# Altium footprint library RaspComputeModule_4_IO.PcbLib: 40 footprints (part 1 of 3)
Each footprint in its own frame and in the unit in brackets; x right, y up, seen from the top. Pads: shape width x height; smd on the part's side, far side on the other; paste and mask are expansions set on the pad; w line width, h text height; cw(c..) or ccw(c..) is an arc to the next point about the centre after c.
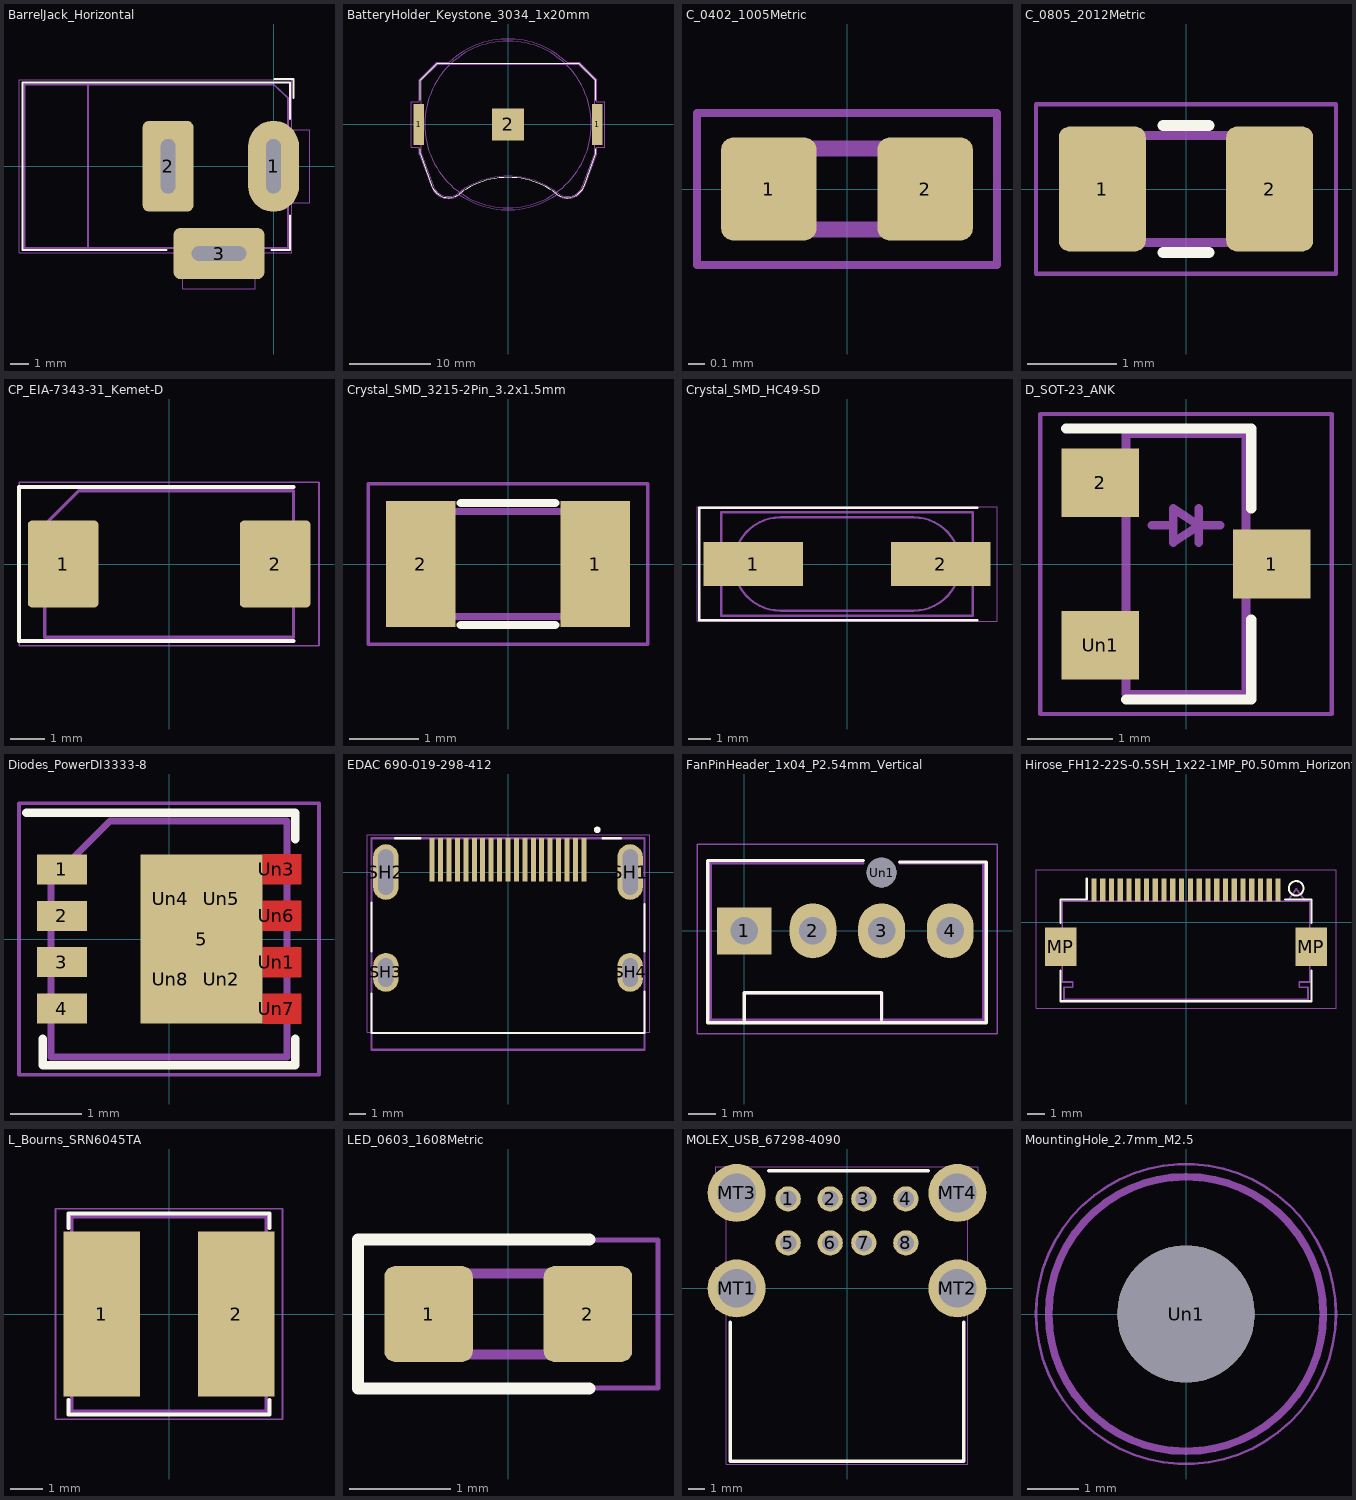
[diagram p0: the footprints below, top view; thin cyan lines are the x and y axes]

## BarrelJack_Horizontal [mm]
pads (3):
  rrect100% 2.8x5 hole 3 slot 0.8 at 0 deg paste-5: 1(0,0)
  rrect25% 2.8x5 hole 3 slot 0.8 at 0 deg paste-5: 2(-5.8,0)
  rrect25% 5x2.8 hole 0.8 slot 3 at 0 deg paste-5: 3(-3,-4.8)
Top Overlay:
  lines w0.12: -5.9,-4.6 -13.8,-4.6 -13.8,4.6 0.9,4.6 0.9,2.6 ; -0.1,-4.6 0.9,-4.6 0.9,-2.7 ; 0.05,4.8 1.1,4.8 1.1,3.75
Mechanical 4:
  lines w0.05: -14,-4.75 -5,-4.75 -5,-6.75 -1,-6.75 -1,-4.75 1,-4.75 1,-2 2,-2 2,2 1,2 1,4.5 1,4.75 -14,4.75 -14,-4.75
Mechanical 6:
  lines w0.1: -10.2,-4.5 -10.2,4.5 ; -0.003,4.505 0.8,3.75 0.8,-4.5 -13.7,-4.5 -13.7,4.5 0,4.5
  text "${REFERENCE}" at -7.773,2.038 h1

## BatteryHolder_Keystone_3034_1x20mm [mm]
pads (3):
  rect 1.27x5.08 smd mask+0: 1(-10.985,0) 1(10.985,0)
  rect 3.96x3.96 smd mask+0: 2(0,0)
Top Overlay:
  lines w0.1: -10.78,-3 -10.78,-3.63 -9.34,-7.58 ccw(c-7.31,-6.85) -6.003,-8.567 ; -10.78,3 -10.78,5.46 -8.7,7.54 8.7,7.54 10.78,5.46 10.78,3 ; -6.005,-8.554 cw(c0,-16.36) 6,-8.55 ccw(c7.31,-6.85) 9.325,-7.588 ; 9.34,-7.58 10.78,-3.63 10.78,-3
Mechanical 2:
  circle w0.15: c0,0 r10.25
Mechanical 4:
  lines w0.05: -9.44,-7.62 -10.88,-3.64 -10.88,-2.79 -11.87,-2.79 -11.87,2.79 -10.88,2.79 -10.88,5.5 -8.74,7.64 -7.2,7.64 cw(c0,0) 7.2,7.64 8.74,7.64 10.88,5.5 10.88,2.79 11.87,2.79 11.87,-2.79 10.88,-2.79 10.88,-3.64 9.412,-7.63 ; -9.43,-7.62 ccw(c-7.31,-6.85) -5.948,-8.647 ; -5.96,-8.64 ccw(c0,0) 5.96,-8.64 ccw(c7.31,-6.85) 9.415,-7.621
Mechanical 6:
  lines w0.1: -6.096,-8.439 cw(c-7.31,-6.85) -9.19,-7.53 -10.63,-3.6 -10.63,5.4 -8.64,7.39 8.64,7.39 10.63,5.4 10.63,-3.6 9.19,-7.53 ; -6.095,-8.426 cw(c0,-16.36) 6.1,-8.43 ccw(c7.31,-6.85) 9.181,-7.529
  text "${REFERENCE}" at 4.773,3.812 h1

## C_0402_1005Metric [mm]
pads (2):
  rrect25% 0.59x0.64 smd mask+0: 1(-0.485,0) 2(0.485,0)
Mechanical 4:
  lines w0.05: -0.93,-0.47 -0.93,0.47 0.93,0.47 0.93,-0.47 -0.93,-0.47
Mechanical 6:
  lines w0.1: -0.5,-0.25 -0.5,0.25 0.5,0.25 0.5,-0.25 -0.5,-0.25
  text "${REFERENCE}" at -1.196,-0.23 h0.25

## C_0805_2012Metric [mm]
pads (2):
  rrect25% 0.975x1.4 smd mask+0: 1(-0.937,0) 2(0.937,0)
Top Overlay:
  lines w0.12: -0.259,-0.71 0.259,-0.71 ; -0.259,0.71 0.259,0.71
Mechanical 4:
  lines w0.05: -1.68,-0.95 1.68,-0.95 1.68,0.95 -1.68,0.95 -1.68,-0.95
Mechanical 6:
  lines w0.1: -1,-0.6 -1,0.6 1,0.6 1,-0.6 -1,-0.6
  text "${REFERENCE}" at 2.391,0.461 h0.5

## CP_EIA-7343-31_Kemet-D [mm]
pads (2):
  rrect12% 2.075x2.55 smd mask+0: 1(-3.113,0) 2(3.113,0)
Top Overlay:
  lines w0.12: 3.65,-2.26 -4.41,-2.26 -4.41,2.26 3.65,2.26
Mechanical 4:
  lines w0.05: -4.4,-2.4 -4.4,2.4 4.4,2.4 4.4,-2.4 -4.4,-2.4
Mechanical 6:
  lines w0.1: -3.65,-2.15 3.65,-2.15 3.65,2.15 -2.65,2.15 -3.65,1.15 -3.65,-2.15
  text "${REFERENCE}" at -4.773,-0.912 h1

## Crystal_SMD_3215-2Pin_3.2x1.5mm [mm]
pads (2):
  rect 1x1.8 smd mask+0: 1(1.25,0) 2(-1.25,0)
Top Overlay:
  lines w0.12: -0.675,-0.875 0.675,-0.875 ; -0.675,0.875 0.675,0.875
Mechanical 4:
  lines w0.05: -2,-1.15 2,-1.15 2,1.15 -2,1.15 -2,-1.15
Mechanical 6:
  lines w0.1: -1.6,-0.75 1.6,-0.75 1.6,0.75 -1.6,0.75 -1.6,-0.75
  text "${REFERENCE}" at -4.773,1.088 h1

## Crystal_SMD_HC49-SD [mm]
pads (2):
  rect 4.5x2 smd mask+0: 1(-4.25,0) 2(4.25,0)
Top Overlay:
  lines w0.12: 5.9,-2.55 -6.7,-2.55 -6.7,2.55 5.9,2.55
Mechanical 4:
  lines w0.05: -6.8,-2.6 6.8,-2.6 6.8,2.6 -6.8,2.6 -6.8,-2.6
Mechanical 6:
  lines w0.1: -5.7,-2.35 -5.7,2.35 5.7,2.35 5.7,-2.35 -5.7,-2.35 ; -3.015,-2.115 cw(c-3.015,0) -3.015,2.115 3.015,2.115 cw(c3.015,0) 3.015,-2.115 -3.015,-2.115
  text "${REFERENCE}" at -4.673,-0.912 h1

## D_SOT-23_ANK [mm]
pads (3):
  rect 0.9x0.8 smd mask+0: 1(1,0) 2(-1,0.95) Un1(-1,-0.95)
Top Overlay:
  lines w0.12: -1.4,1.58 0.76,1.58 0.76,0.65 ; -0.7,-1.58 0.76,-1.58 0.76,-0.65
Mechanical 4:
  lines w0.05: -1.7,-1.75 1.7,-1.75 1.7,1.75 -1.7,1.75 -1.7,-1.75
Mechanical 6:
  lines w0.1: -0.4,0.45 -0.15,0.45 ; 0.15,0.25 0.15,0.65 ; 0.4,0.45 0.15,0.45 ; 0.15,0.45 -0.15,0.25 -0.15,0.65 0.15,0.45 ; -0.7,-1.52 -0.7,1.52 0.7,1.52 0.7,-1.52 -0.7,-1.52
  text "${REFERENCE}" at -4.773,1.588 h1

## Diodes_PowerDI3333-8 [mm]
pads (13):
  rect 0.7x0.42 smd mask+0: 1(-1.5,0.975) 2(-1.5,0.325) 3(-1.5,-0.325) 4(-1.5,-0.975)
  rect 1.71x2.37 smd paste-2.37 mask+0: 5(0.455,0)
  rect 0.7x0.42 on Top Paste mask-0.7: Un1(1.5,-0.325) Un3(1.5,0.975) Un6(1.5,0.325) Un7(1.5,-0.975)
  rect 0.6x1 on Top Paste mask-1: Un2(0.73,-0.565) Un4(0.02,0.565) Un5(0.73,0.565) Un8(0.02,-0.565)
Top Layer:
  region: 1.85,-1.185 1.31,-1.185 1.31,-0.765 1.85,-0.765
  region: 1.85,-0.535 1.31,-0.535 1.31,-0.115 1.85,-0.115
  region: 1.85,0.115 1.31,0.115 1.31,0.535 1.85,0.535
  region: 1.85,0.765 1.31,0.765 1.31,1.185 1.85,1.185
Top Overlay:
  lines w0.12: -2,1.77 1.77,1.77 1.77,1.4 ; -1.77,-1.4 -1.77,-1.77 1.77,-1.77 1.77,-1.4
Top Solder:
  region: 1.85,-1.185 1.31,-1.185 1.31,-0.765 1.85,-0.765
  region: 1.85,-0.535 1.31,-0.535 1.31,-0.115 1.85,-0.115
  region: 1.85,0.115 1.31,0.115 1.31,0.535 1.85,0.535
  region: 1.85,0.765 1.31,0.765 1.31,1.185 1.85,1.185
Mechanical 4:
  lines w0.05: -2.1,-1.9 2.1,-1.9 2.1,1.9 -2.1,1.9 -2.1,-1.9
Mechanical 6:
  lines w0.1: -1.65,-1.65 -1.65,0.825 -0.825,1.65 1.65,1.65 1.65,-1.65 -1.65,-1.65
  text "${REFERENCE}" at 3.336,0.633 h0.7

## EDAC 690-019-298-412 [mm]
pads (23):
  rect 0.3x2.6 smd mask+0: 1(4.5,0.73) 2(4,0.73) 3(3.5,0.73) 4(3,0.73) 5(2.5,0.73) 6(2,0.73) 7(1.5,0.73) 8(1,0.73) 9(0.5,0.73) 10(0,0.73) 11(-0.5,0.73) 12(-1,0.73) 13(-1.5,0.73) 14(-2,0.73) 15(-2.5,0.73) 16(-3,0.73) 17(-3.5,0.73) 18(-4,0.73) 19(-4.5,0.73)
  rrect100% 1.5x3.3 hole 2.7 slot 0.9 at 0 deg paste-3.3: SH1(7.25,0) SH2(-7.25,0)
  rrect100% 1.5x2.3 hole 1.7 slot 0.9 at 0 deg paste-2.3: SH3(-7.25,-5.96) SH4(7.25,-5.96)
Top Overlay:
  circle w0.2: c5.3,2.5 r0.1
  lines w0.127: -8.1,-7.2 -8.1,-9.55 8.1,-9.55 8.1,-7.1 ; -8.1,-4.7 -8.1,-1.8 ; -6.7,2 -5.2,2 ; 5.6,2 6.7,2 ; 8.1,-4.7 8.1,-1.9
Mechanical 8:
  lines w0.05: -8.35,-9.5 8.4,-9.5 8.4,2.2 -8.35,2.2 -8.35,-8.5 -8.35,-9.5
Mechanical 9:
  lines w0.127: -8.1,-10.55 -8.1,-8.5 -8.1,2 8.1,2 8.1,-8.5 8.1,-10.55 -8.1,-10.55

## FanPinHeader_1x04_P2.54mm_Vertical [mm]
pads (5):
  rect 2.03x1.73 hole 1.02 paste-2.03: 1(0,0)
  rrect100% 1.73x2.03 hole 1.02 paste-2.03: 2(2.54,0) 3(5.08,0) 4(7.62,0)
  round 1.1 hole 1.1 paste-1.1: Un1(5.08,2.16)
Top Overlay:
  lines w0.12: 0,-3.3 0,-2.29 5.08,-2.29 5.08,-3.3 ; 4.4,2.6 -1.35,2.6 -1.35,-3.4 8.95,-3.4 8.95,2.55 5.75,2.55
Mechanical 4:
  lines w0.05: -1.75,-3.8 -1.75,3.2 9.35,3.2 9.35,-3.8 -1.75,-3.8
Mechanical 6:
  lines w0.1: 0,-3.3 0,-2.3 5.1,-2.3 5.1,-3.3 ; 4.4,2.5 -1.25,2.5 -1.25,-3.3 -1.2,-3.3 8.85,-3.3 8.85,2.5 5.75,2.5
  text "${REFERENCE}" at -2.923,0.838 h1

## Hirose_FH12-22S-0.5SH_1x22-1MP_P0.50mm_Horizontal [mm]
pads (24):
  rect 0.3x1.3 smd mask+0: 1(5.25,1.85) 2(4.75,1.85) 3(4.25,1.85) 4(3.75,1.85) 5(3.25,1.85) 6(2.75,1.85) 7(2.25,1.85) 8(1.75,1.85) 9(1.25,1.85) 10(0.75,1.85) 11(0.25,1.85) 12(-0.25,1.85) 13(-0.75,1.85) 14(-1.25,1.85) 15(-1.75,1.85) 16(-2.25,1.85) 17(-2.75,1.85) 18(-3.25,1.85) 19(-3.75,1.85) 20(-4.25,1.85) 21(-4.75,1.85) 22(-5.25,1.85)
  rect 1.8x2.2 smd mask+0: MP(-7.15,-1.4) MP(7.15,-1.4)
Top Overlay:
  circle w0.12: c6.28,1.94 r0.414
  lines w0.12: -7.15,-2.76 -7.15,-4.5 7.15,-4.5 7.15,-2.76 ; -7.15,-0.04 -7.15,1.3 -5.66,1.3 -5.66,2.5 ; 5.66,1.3 7.15,1.3 7.15,-0.04
Mechanical 4:
  lines w0.05: -8.55,-4.9 -8.55,3 8.55,3 8.55,-4.9 -8.55,-4.9
Mechanical 6:
  lines w0.1: 5.79,1.203 6.29,1.91 6.79,1.203 ; -7.05,-3.4 -7.05,1.2 0,1.2 7.05,1.2 7.05,-3.4 6.45,-3.4 6.45,-3.7 6.95,-3.7 6.95,-4.4 0,-4.4 -6.95,-4.4 -6.95,-3.7 -6.45,-3.7 -6.45,-3.4 -7.05,-3.4
  text "${REFERENCE}" at 4.773,-2.788 h1

## L_Bourns_SRN6045TA [mm]
pads (2):
  rect 2.35x5.1 smd mask+0: 1(-2.075,0) 2(2.075,0)
Top Overlay:
  lines w0.12: -3.1,-2.65 -3.1,-3.1 3.1,-3.1 3.1,-2.65 ; -3.1,2.65 -3.1,3.1 3.1,3.1 3.1,2.65
Mechanical 4:
  lines w0.05: -3.5,-3.25 3.5,-3.25 3.5,3.25 -3.5,3.25 -3.5,-3.25
Mechanical 6:
  lines w0.1: -3,-3 3,-3 3,3 -3,3 -3,-3
  text "${REFERENCE}" at -0.912,4.773 h1

## LED_0603_1608Metric [mm]
pads (2):
  rrect25% 0.875x0.95 smd mask+0: 1(-0.787,0) 2(0.787,0)
Top Overlay:
  lines w0.12: 0.8,-0.735 -1.485,-0.735 -1.485,0.735 0.8,0.735
Mechanical 4:
  lines w0.05: -1.48,-0.73 -1.48,0.73 1.48,0.73 1.48,-0.73 -1.48,-0.73
Mechanical 6:
  lines w0.1: -0.8,-0.4 0.8,-0.4 0.8,0.4 -0.5,0.4 -0.8,0.1 -0.8,-0.4
  text "${REFERENCE}" at 1.909,0.365 h0.4

## MOLEX_USB_67298-4090 [mm]
pads (12):
  round 1.5 hole 1 paste-1.5: 1(-3.5,5.33) 2(-1,5.33) 3(1,5.33) 4(3.5,5.33) 5(-3.5,2.71) 6(-1,2.71) 7(1,2.71) 8(3.5,2.71)
  round 3.45 hole 2.3 paste-3.45: MT1(-6.57,0) MT2(6.57,0) MT3(-6.57,5.68) MT4(6.57,5.68)
Top Overlay:
  lines w0.2: -6.95,-2 -6.95,-10.29 6.95,-10.29 6.95,-2 ; -4.66,7 4.84,7
Mechanical 8:
  lines w0.05: -7.8,-1.25 -7.2,-1.25 -7.2,-10.45 7.2,-10.45 7.2,-1.25 7.8,-1.25 7.8,1.25 7.2,1.25 7.2,4.5 7.8,4.5 7.8,7.25 -7.8,7.25 -7.8,4.5 -7.2,4.5 -7.2,1.25 -7.8,1.25 -7.8,-1.25

## MountingHole_2.7mm_M2.5 [mm]
pads (1):
  round 2.7 hole 2.7 paste-2.7 mask+1.7: Un1(0,0)
Mechanical 4:
  circle w0.05: c0,0 r2.95
Mechanical 6:
  text "${REFERENCE}" at -4.473,-0.912 h1
Mechanical 7:
  circle w0.15: c0,0 r2.7